# Altium schematic symbol library EG1213.SchLib: 1 symbol
Pins are listed as number, name and electrical type; pins without a type are passive.

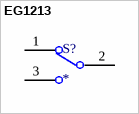
[diagram p0: symbol EG1213]

## EG1213
designator S?
<b>EG Series SPDT On-On Right Angle Through Hole Slide Switch</b>; MP: EG1213; MF: {'manufacturer': u'E-Switch'}; Value: *; Package: None; Price: None; Availability: Unavailable
footprint SW_EG1213
pins: 1, 2, 3